# EAGLE library part ELEMO_202 (library MyLibrary)
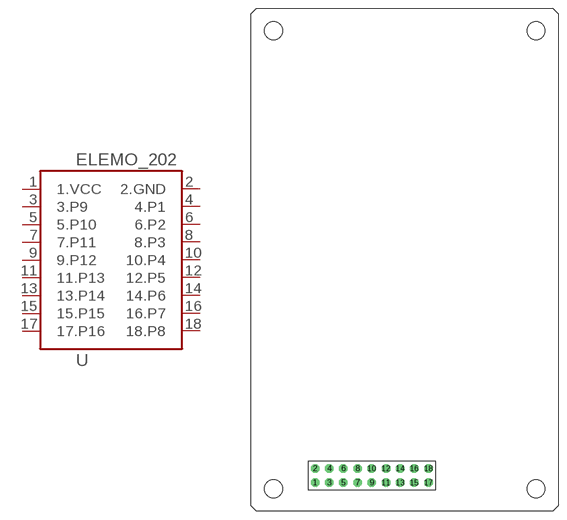
[diagram p22: symbol with the pads of ELEMO_202; footprint ELEMO_202]

Designator prefix -

## ELEMO_202  [ELEMO_202]
1  1.VCC
2  2.GND
3  3.P9
4  4.P1
5  5.P10
6  6.P2
7  7.P11
8  8.P3
9  9.P12
10  10.P4
11  11.P13
12  12.P5
13  13.P14
14  14.P6
15  15.P15
16  16.P7
17  17.P16
18  18.P8

## Footprint ELEMO_202 (pad centres in mm)
drill 1 octagon: 1 11.43,5.08; 2 11.43,7.62; 3 13.97,5.08; 4 13.97,7.62; 5 16.51,5.08; 6 16.51,7.62; 7 19.05,5.08; 8 19.05,7.62; 9 21.59,5.08; 10 21.59,7.62; 11 24.13,5.08; 12 24.13,7.62; 13 26.67,5.08; 14 26.67,7.62; 15 29.21,5.08; 16 29.21,7.62; 17 31.75,5.08; 18 31.75,7.62
hole 3.2 at 4,4
hole 3.2 at 51,4
hole 3.2 at 4,86
hole 3.2 at 51,86